# EAGLE library part AD8250 (library kimth)
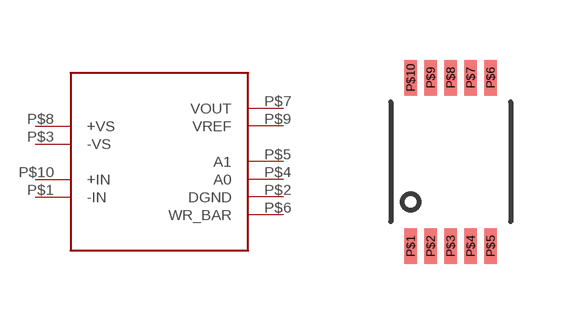
[diagram p1: symbol with the pads of MSOP-10; footprint MSOP-10]

Designator prefix -

## AD8250  [MSOP-10]
P$1  -IN
P$2  DGND
P$3  -VS
P$4  A0
P$5  A1
P$6  WR_BAR
P$7  VOUT
P$8  +VS
P$9  VREF
P$10  +IN

## Footprint MSOP-10 (pad centres in mm)
smd 0.305 x 0.889: P$1 -1,-2.11; P$2 -0.5,-2.11; P$3 0,-2.11; P$4 0.5,-2.11; P$5 1,-2.11; P$6 1,2.11; P$7 0.5,2.11; P$8 0,2.11; P$9 -0.5,2.11; P$10 -1,2.11